# Altium footprint library STPM10_Library(Youssef).PcbLib: 17 footprints (part 1 of 2)
Each footprint in its own frame and in the unit in brackets; x right, y up, seen from the top. Pads: shape width x height; smd on the part's side, far side on the other; paste and mask are expansions set on the pad; w line width, h text height; cw(c..) or ccw(c..) is an arc to the next point about the centre after c.
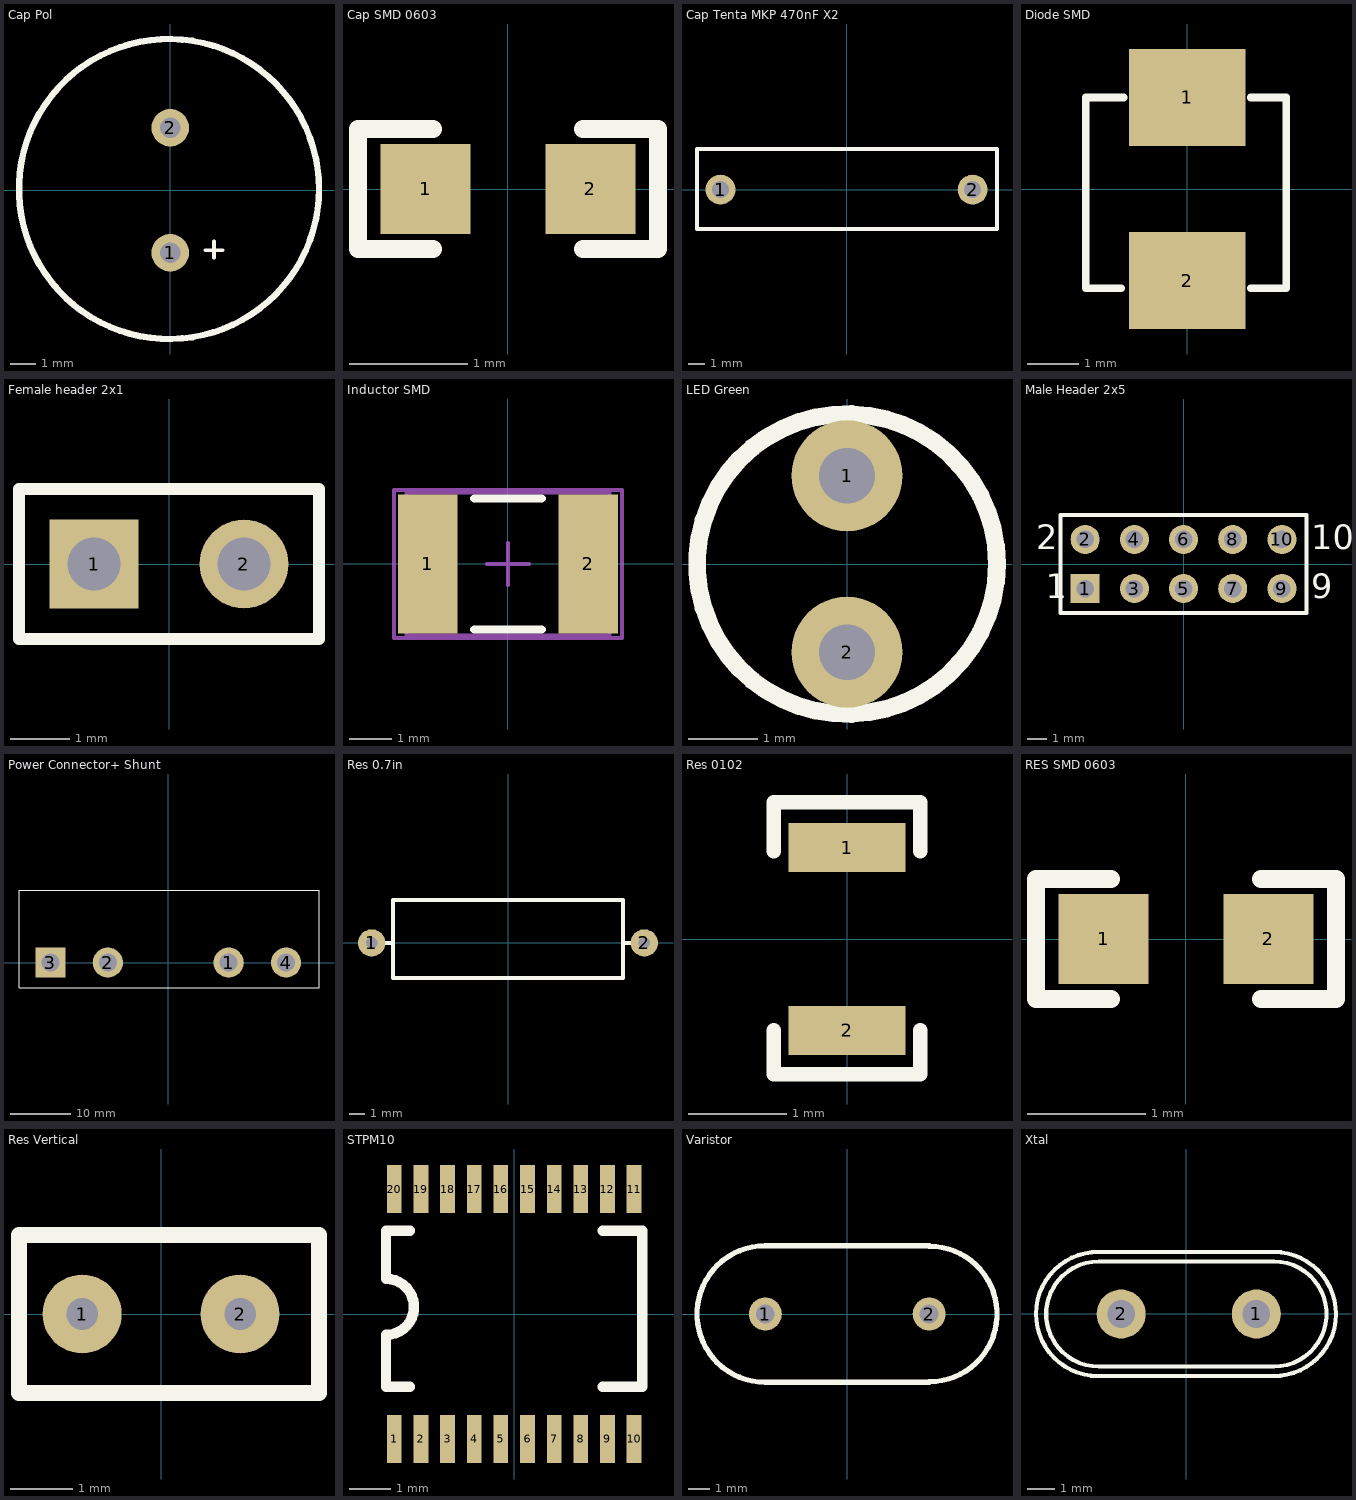
[diagram p0: the footprints below, top view; thin cyan lines are the x and y axes]

## Cap Pol [mm] "Cap Pol 4700uF 10V"
height 25.4
pads (2):
  round 1.5 hole 0.8: 1(0,-2.5) 2(0,2.5)
Top Overlay:
  circle w0.254: c-0.05,0.05 r6
  lines w0.15: 1.4,-2.4 2.1,-2.4 ; 1.75,-2.7 1.75,-2.05
3D body "Cap Pol (13x25).step": height 25, standoff -3.3, extent -6.499,-6.5 6.499,6.502

## Cap SMD 0603 [mil] "Capacité SMD non polarisé"
pads (2):
  rect 30x30 smd: 1(-27.5,0) 2(27.5,0)
Top Overlay:
  lines w6: -25,-20 -50,-20 -50,20 -25,20 ; 25,-20 50,-20 50,20 25,20
3D body "Cap SMD 0603.step": height 31.69, standoff 0, extent -48.42,-15.74 48.43,15.75

## Cap Tenta MKP 470nF X2 [mil] "Cap Tenta MKP 470nF X2 - 0.6in"
height 630
pads (2):
  round 70 hole 40: 1(-295,0) 2(295,0)
Top Overlay:
  lines w10: -350,-92 -350,95 352,95 352,-92 -350,-92
3D body "Film Capacitor 18x5x11mm.STEP": height 433.07, standoff -78.74, extent -352.33,-97 356.33,99.85

## Diode SMD [mm]
height 3.429
pads (2):
  rect 2.3x1.9 smd: 1(0,1.8) 2(0,-1.8)
Top Overlay:
  lines w0.15: -1.3,-1.95 -2,-1.95 -2,1.8 -1.25,1.8 ; 1.25,-1.95 1.95,-1.95 1.95,1.8 1.25,1.8
3D body "Diode SOD-80.step": height 1.6, standoff 0, extent -0.8,-1.88 0.8,1.82

## Female header 2x1 [mm]
pads (2):
  rect 1.5x1.5 hole 0.9: 1(-1.27,0)
  round 1.5 hole 0.9: 2(1.27,0)
Top Overlay:
  lines w0.2: -2.54,-1.27 2.54,-1.27 2.54,1.27 -2.54,1.27 -2.54,-1.27
3D body "Male Header 2x1.step": height 6.02, standoff -3.1, extent -2.565,-1.295 2.515,1.245

## Inductor SMD [mm]
height 3.429
pads (2):
  rect 1.4x3.3 smd: 1(-1.9,0) 2(1.9,0)
Top Overlay:
  lines w0.2: -0.8,-1.55 0.8,-1.55 ; -0.8,1.55 0.8,1.55
Mechanical 13:
  lines w0.1: -2.4,-1.7 -2.4,1.7 2.4,1.7 2.4,-1.7 -2.4,-1.7
Mechanical 15:
  lines w0.1: -0.5,0 0.5,0 ; 0,-0.5 0,0.5 ; -2.7,-1.75 -2.7,1.75 2.7,1.75 2.7,-1.75 -2.7,-1.75
3D body "Inductor SMD 1812.step": height 3.2, standoff 0, extent -2.217,-1.612 2.283,1.588

## LED Green [mm]
pads (2):
  round 1.6 hole 0.8: 1(0,1.27) 2(0,-1.27)
Top Overlay:
  circle w0.254: c0,0 r2.159
3D body "LED Green.step": height 5.38, standoff -3.17, extent -1.74,-1.765 1.753,2.222

## Male Header 2x5 [mm]
pads (10):
  rect 1.5x1.5 hole 0.9: 1(-5.08,-1.27)
  round 1.5 hole 0.9: 2(-5.08,1.27) 3(-2.54,-1.27) 4(-2.54,1.27) 5(0,-1.27) 6(0,1.27) 7(2.54,-1.27) 8(2.54,1.27) 9(5.08,-1.27) 10(5.08,1.27)
Top Overlay:
  lines w0.2: -6.35,-2.54 6.35,-2.54 6.35,2.54 -6.35,2.54 -6.35,-2.54
  text "10" at 6.604,0.762 h1.27
  text "9" at 6.604,-1.778 h1.27
  text "1" at -7.112,-1.778 h1.27
  text "2" at -7.62,0.762 h1.27
3D body "Male Header 2x5.step": height 8.38, standoff -3.81, extent -6.363,-2.548 6.337,2.532

## Power Connector+ Shunt [mm]
pads (4):
  round 5 hole 3: 1(10,0) 2(-10,0) 4(19.5,0)
  rect 5x5 hole 3: 3(-19.5,0)
Top Overlay:
  lines w0.2: -24.7,-4.2 -24.7,12 24.95,12 24.95,-4.2 -24.7,-4.2
3D body "Shunt.step": height 2.34, standoff -0.01, extent -7.376,-3.468 7.624,4.282

## Res 0.7in [mil]
height 200
pads (2):
  round 70 hole 30: 1(-350,0) 2(350,0)
Top Overlay:
  lines w10: -350,0 -295,0 ; 295,0 350,0 ; -295,-90 -295,110 295,110 295,-90 -295,-90
3D body "Res 0.7in.step": height 217.48, standoff -68.74, extent -365.94,-107.26 365.95,109.27

## Res 0102 [mm]
pads (2):
  rect 1.2x0.5 smd: 1(0,0.935) 2(0,-0.935)
Top Overlay:
  lines w0.15: -0.75,-0.935 -0.75,-1.385 0.75,-1.385 0.75,-0.935 ; -0.75,0.901 -0.75,1.401 0.75,1.401 0.75,0.901
3D body "RES SMD 0102.STEP": height 1.1, standoff 0, extent -0.541,-1 0.559,1

## RES SMD 0603 [mil]
height 1
pads (2):
  rect 30x30 smd: 1(-27.5,0) 2(27.5,0)
Top Overlay:
  lines w6: -25,-20 -50,-20 -50,20 -25,20 ; 25,-20 50,-20 50,20 25,20
3D body "RES SMD 0603.STEP": height 17.13, standoff -0.59, extent -31.46,-16.66 33.11,16.8

## Res Vertical [mil] "Res Mounted vertically - 0.1in"
height 1000
pads (2):
  round 50 hole 20: 1(-50,0) 2(50,0)
Top Overlay:
  lines w10: -90,-50 100,-50 100,50 50,50 -90,50 -90,-50
3D body "Resistor Vertical.step": height 291, standoff -84, extent -94.99,-44.99 60.01,45.01

## STPM10 [mm]
pads (20):
  rect 0.36x1.17 smd: 1(-2.925,-3.05) 2(-2.275,-3.05) 3(-1.625,-3.05) 4(-0.975,-3.05) 5(-0.325,-3.05) 6(0.325,-3.05) 7(0.975,-3.05) 8(1.625,-3.05) 9(2.275,-3.05) 10(2.925,-3.05) 11(2.925,3.05) 12(2.275,3.05) 13(1.625,3.05) 14(0.975,3.05) 15(0.325,3.05) 16(-0.325,3.05) 17(-0.975,3.05) 18(-1.625,3.05) 19(-2.275,3.05) 20(-2.925,3.05)
Top Overlay:
  lines w0.254: -3.128,-1.78 -3.128,-0.51 ccw(c-3.128,0.174) -3.128,0.858 ; -3.128,0.887 -3.128,2.03 ; -3.124,-1.78 -2.544,-1.78 ; -3.099,2.03 -2.544,2.03 ; 2.155,-1.78 3.124,-1.78 3.124,2.03 2.663,2.03 2.155,2.03
3D body "TSSOP20.STEP": height 1.2, standoff 0, extent -3.25,-3.2 3.25,3.2

## Varistor [mm]
height 12.7
pads (2):
  round 1.574 hole 0.9: 1(-3.9,0) 2(3.9,0)
Top Overlay:
  lines w0.254: 3.9,-3.25 -3.9,-3.25 cw(c-3.9,0) -3.9,3.25 3.9,3.25 ; 3.9,-3.227 ccw(c3.9,0) 3.9,3.227
3D body "Varistor 15.5mm 7.5 Spacing.step": height 18.5, standoff -3, extent -7.998,-3.789 8.049,3.79

## Xtal [mil] "Quartz HC49"
height 120
pads (2):
  round 70 hole 39.37: 1(100,0) 2(-93,0)
Top Overlay:
  lines w6: 124.99,88.57 -125.09,88.57 ccw(c-126,0) -126,-88.59 124.06,-88.58 ccw(c125,0) 125,88.58 ; -125,-75 cw(c-125,0) -125,75 125,75 cw(c125,0) 125,-75 -125,-75
3D body "XTAL HC49.step": height 141.73, standoff -78.35, extent -220.42,-91.53 226.43,91.54